# Altium schematic symbol library BrightLED.SchLib: 1 symbol
Pins are listed as number, name and electrical type; pins without a type are passive.

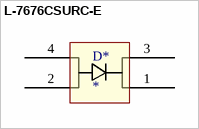
[diagram p0: symbol L-7676CSURC-E]

## L-7676CSURC-E
designator D*
footprint L-7676CSURC-E
pins: 1 0, 2 0, 3 0, 4 0